# Altium footprint library 691 243 200 0xx.PcbLib: 8 footprints
Each footprint in its own frame and in the unit in brackets; x right, y up, seen from the top. Pads: shape width x height; smd on the part's side, far side on the other; paste and mask are expansions set on the pad; w line width, h text height; cw(c..) or ccw(c..) is an arc to the next point about the centre after c.
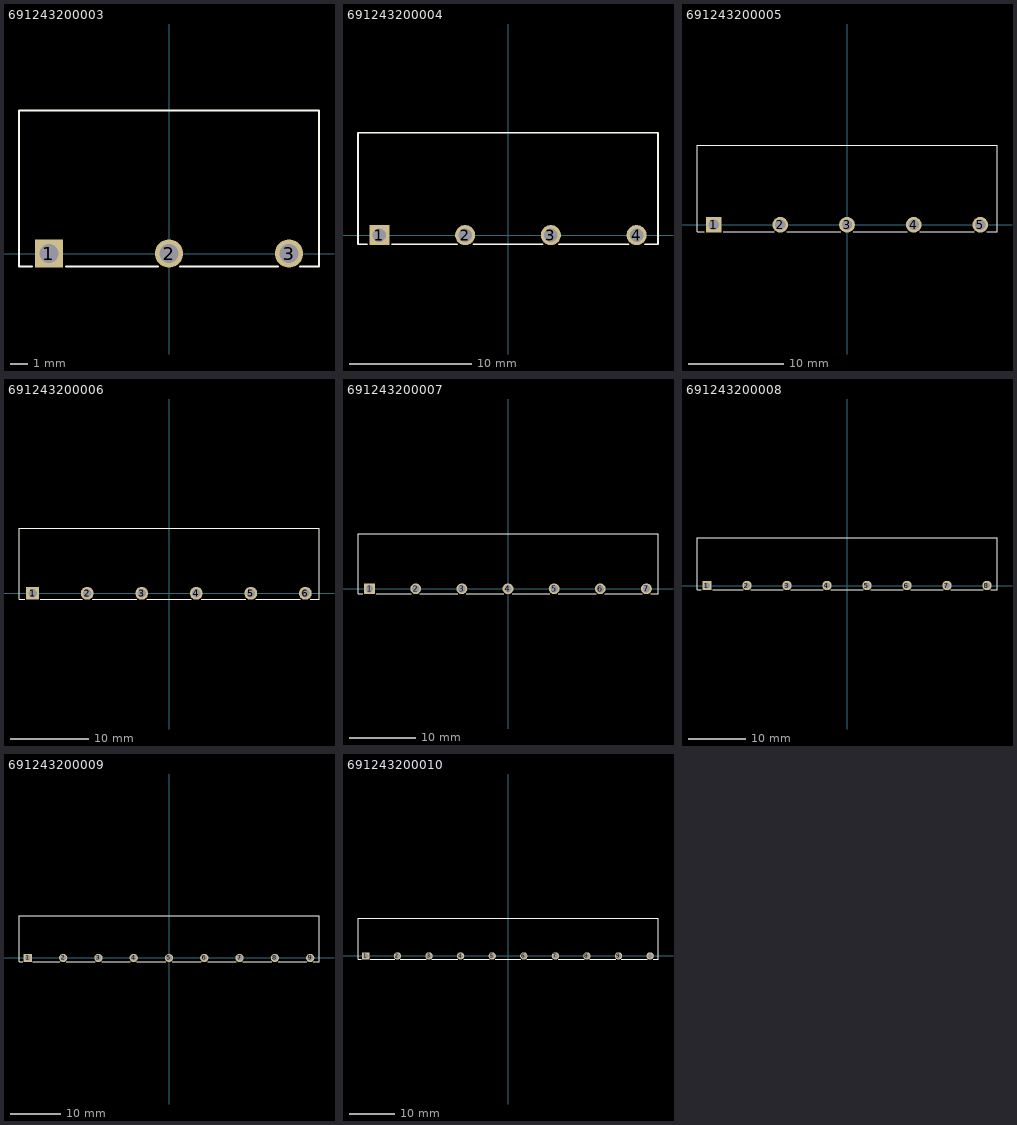
[diagram p0: the footprints below, top view; thin cyan lines are the x and y axes]

## 691243200003 [mm] "Serie 2432 - 7.00 mm _ 3 pins"
height 7.3
pads (3):
  rect 1.65x1.65 hole 1.1: 1(-7,0)
  round 1.65 hole 1.1: 2(0,0) 3(7,0)
Top Overlay:
  lines w0.127: -8,-0.75 -8.75,-0.75 -8.75,8.35 8.75,8.35 8.75,-0.75 7.65,-0.75 ; -6,-0.75 -0.65,-0.75 ; 0.65,-0.75 6.35,-0.75
3D body: height 7.4, standoff -3.4, extent -8.75,-0.8 8.75,8.3

## 691243200004 [mm] "Serie 2432 - 7.00 mm _ 4 pins"
height 7.3
pads (4):
  rect 1.65x1.65 hole 1.1: 1(-10.5,0)
  round 1.65 hole 1.1: 2(-3.5,0) 3(3.5,0) 4(10.5,0)
Top Overlay:
  lines w0.127: -11.5,-0.75 -12.25,-0.75 -12.25,8.35 12.25,8.35 12.25,-0.75 11.15,-0.75 ; -9.5,-0.75 -4.15,-0.75 ; -2.85,-0.75 2.85,-0.75 ; 4.15,-0.75 9.85,-0.75
3D body: height 7.4, standoff -3.4, extent -12.25,-0.75 12.25,8.35

## 691243200005 [mm] "Serie 2432 - 7.00 mm _ 5 pins"
height 7.3
pads (5):
  rect 1.65x1.65 hole 1.1: 1(-14,0)
  round 1.65 hole 1.1: 2(-7,0) 3(0,0) 4(7,0) 5(14,0)
Top Overlay:
  lines w0.127: -15,-0.75 -15.75,-0.75 -15.75,8.35 15.75,8.35 15.75,-0.75 14.65,-0.75 ; -13,-0.75 -7.65,-0.75 ; -6.35,-0.75 -0.65,-0.75 ; 0.65,-0.75 6.35,-0.75 ; 7.65,-0.75 13.35,-0.75
3D body: height 7.4, standoff -3.4, extent -15.75,-0.75 15.75,8.35

## 691243200006 [mm] "Serie 2432 - 7.00 mm _ 6 pins"
height 7.3
pads (6):
  rect 1.65x1.65 hole 1.1: 1(-17.5,0)
  round 1.65 hole 1.1: 2(-10.5,0) 3(-3.5,0) 4(3.5,0) 5(10.5,0) 6(17.5,0)
Top Overlay:
  lines w0.127: -18.5,-0.75 -19.25,-0.75 -19.25,8.35 19.25,8.35 19.25,-0.75 18.15,-0.75 ; -16.5,-0.75 -11.15,-0.75 ; -9.85,-0.75 -4.15,-0.75 ; -2.85,-0.75 2.85,-0.75 ; 4.15,-0.75 9.85,-0.75 ; 11.15,-0.75 16.85,-0.75
3D body: height 7.4, standoff -3.4, extent -19.3,-0.75 19.2,8.35

## 691243200007 [mm] "Serie 2432 - 7.00 mm _ 7 pins"
height 7.3
pads (7):
  rect 1.65x1.65 hole 1.1: 1(-21,0)
  round 1.65 hole 1.1: 2(-14,0) 3(-7,0) 4(0,0) 5(7,0) 6(14,0) 7(21,0)
Top Overlay:
  lines w0.127: -22,-0.75 -22.75,-0.75 -22.75,8.35 22.75,8.35 22.75,-0.75 21.65,-0.75 ; -20,-0.75 -14.65,-0.75 ; -13.35,-0.75 -7.65,-0.75 ; -6.35,-0.75 -0.65,-0.75 ; 0.65,-0.75 6.35,-0.75 ; 7.65,-0.75 13.35,-0.75 ; 14.65,-0.75 20.35,-0.75
3D body: height 7.4, standoff -3.4, extent -22.75,-0.75 22.75,8.35

## 691243200008 [mm] "Serie 2432 - 7.00 mm _ 8 pins"
height 7.3
pads (8):
  rect 1.65x1.65 hole 1.1: 1(-24.5,0)
  round 1.65 hole 1.1: 2(-17.5,0) 3(-10.5,0) 4(-3.5,0) 5(3.5,0) 6(10.5,0) 7(17.5,0) 8(24.5,0)
Top Overlay:
  lines w0.127: -25.5,-0.75 -26.25,-0.75 -26.25,8.35 26.25,8.35 26.25,-0.75 25.15,-0.75 ; -23.5,-0.75 -18.15,-0.75 ; -16.85,-0.75 -11.15,-0.75 ; -9.85,-0.75 -4.15,-0.75 ; -2.85,-0.75 2.85,-0.75 ; 4.15,-0.75 9.85,-0.75 ; 11.15,-0.75 16.85,-0.75 ; 18.15,-0.75 23.85,-0.75
3D body: height 7.4, standoff -3.4, extent -26.25,-0.75 26.25,8.35

## 691243200009 [mm] "Serie 2432 - 7.00 mm _ 9 pins"
height 7.3
pads (9):
  rect 1.65x1.65 hole 1.1: 1(-28,0)
  round 1.65 hole 1.1: 2(-21,0) 3(-14,0) 4(-7,0) 5(0,0) 6(7,0) 7(14,0) 8(21,0) 9(28,0)
Top Overlay:
  lines w0.127: -29,-0.75 -29.75,-0.75 -29.75,8.35 29.75,8.35 29.75,-0.75 28.65,-0.75 ; -27,-0.75 -21.65,-0.75 ; -20.35,-0.75 -14.65,-0.75 ; -13.35,-0.75 -7.65,-0.75 ; -6.35,-0.75 -0.65,-0.75 ; 0.65,-0.75 6.35,-0.75 ; 7.65,-0.75 13.35,-0.75 ; 14.65,-0.75 20.35,-0.75 ; 21.65,-0.75 27.35,-0.75
3D body: height 7.4, standoff -3.4, extent -29.75,-0.75 29.75,8.35

## 691243200010 [mm] "Serie 2432 - 7.00 mm _ 10 pins"
height 7.3
pads (10):
  rect 1.65x1.65 hole 1.1: 1(-31.5,0)
  round 1.65 hole 1.1: 2(-24.5,0) 3(-17.5,0) 4(-10.5,0) 5(-3.5,0) 6(3.5,0) 7(10.5,0) 8(17.5,0) 9(24.5,0) 10(31.5,0)
Top Overlay:
  lines w0.127: -32.5,-0.75 -33.25,-0.75 -33.25,8.35 33.25,8.35 33.25,-0.75 32.15,-0.75 ; -30.5,-0.75 -25.15,-0.75 ; -23.85,-0.75 -18.15,-0.75 ; -16.85,-0.75 -11.15,-0.75 ; -9.85,-0.75 -4.15,-0.75 ; -2.85,-0.75 2.85,-0.75 ; 4.15,-0.75 9.85,-0.75 ; 11.15,-0.75 16.85,-0.75 ; 18.15,-0.75 23.85,-0.75 ; 25.15,-0.75 30.85,-0.75
3D body: height 7.4, standoff -3.4, extent -33.25,-0.75 33.25,8.35